# Altium schematic symbol library 2020-09-15_19-18-47.SchLib: 1 symbol
Pins are listed as number, name and electrical type; pins without a type are passive.

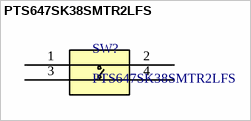
[diagram p0: symbol PTS647SK38SMTR2LFS]

## PTS647SK38SMTR2LFS
designator SW?
No Description Available; Vendor: C&K; Built_By: EMA_Cory; SourceLibrary: C&K_2020-05-06; Datasheet: https://www.ckswitches.com/media/2567/pts647.pdf; Manufacturer_Part_Number: PTS647SK38SMTR2LFS; Copyright: Copyright (C) 2018 Accelerated Designs. All rights reserved; RefDes: RefDes; Type: DEV
footprint PTS647SK38SMTR2LFS_CNK
pins: 1, 2, 3, 4